# EAGLE library part 1-CUSTOM_VLA504-01 (library Hybrid Driver)
VLA504-01 Hybrid IC IGBT Gate Driver 600V module up to 200A 1200V module up to 100A
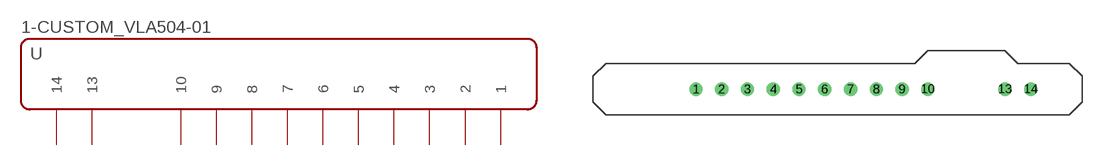
[diagram p1: symbol with the pads of 1-CUSTOM_HYBRID-IC-IBGT-GATE-DRIVER; footprint 1-CUSTOM_HYBRID-IC-IBGT-GATE-DRIVER]

Designator prefix U

## 1-CUSTOM_VLA504-01  [1-CUSTOM_HYBRID-IC-IBGT-GATE-DRIVER]
1  1
2  2
3  3
4  4
5  5
6  6
7  7
8  8
9  9
10  10
13  13
14  14

## Footprint 1-CUSTOM_HYBRID-IC-IBGT-GATE-DRIVER (pad centres in mm)
drill 0.8: 1 10.16,3.81; 2 12.7,3.81; 3 15.24,3.81; 4 17.78,3.81; 5 20.32,3.81; 6 22.86,3.81; 7 25.4,3.81; 8 27.94,3.81; 9 30.48,3.81; 10 33.02,3.81; 13 40.64,3.81; 14 43.18,3.81